# EAGLE library part LB1973M (library LB1973M)
edit this description Auto generated by make-symbol-device-package-bsdl.ulp Rev. 43 Source:
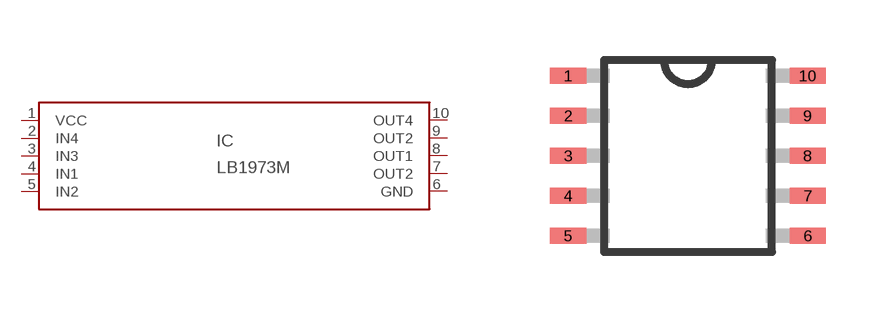
[diagram p0: symbol with the pads of SSOP10; footprint SSOP10]

Designator prefix IC

## LB1973M  [SSOP10]
1  VCC  pwr
2  IN4  in
3  IN3  in
4  IN1  in
5  IN2  in
6  GND  pwr
7  OUT2  out
8  OUT1  out
9  OUT2  out
10  OUT4  out

## Footprint SSOP10 (pad centres in mm)
SSOP10 Auto generated by make-symbol-device-package-bsdl.ulp Rev. 43
smd 0.9 x 0.4: 1 -2.996,2; 2 -2.996,1; 3 -2.996,0; 4 -2.996,-1; 5 -2.996,-2; 6 2.996,-2; 7 2.996,-1; 8 2.996,0; 9 2.996,1; 10 2.996,2